# Altium schematic symbol library jlcpcb_2025_04_ferrites_extended_0402.schlib: 536 symbols (part 7 of 10)
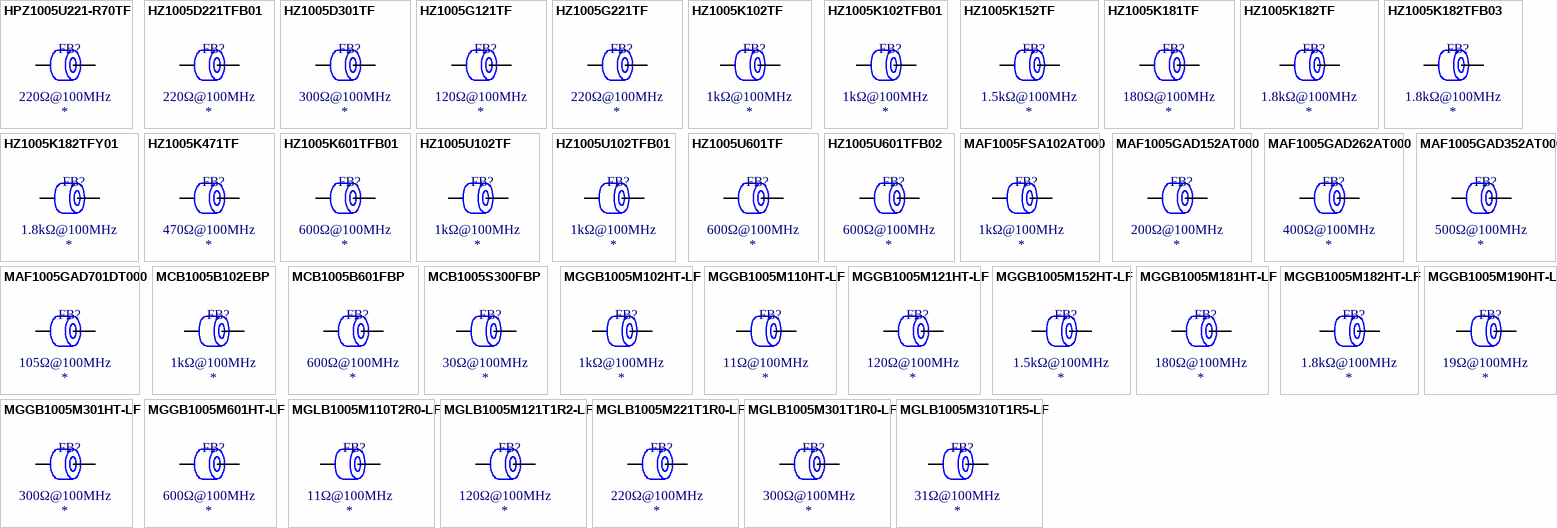
[diagram p19: symbols HPZ1005U221-R70TF to MGLB1005M310T1R5-LF]

## HZ1005U102TF
designator FB?  Impedance @ Frequency: 1kΩ@100MHz
Ferrite, 1kΩ@100MHz, ±25%, 1.1Ω, 250mA, SMD 0402; Manufacturer: Sunlord; Manufacturer Part Number: HZ1005U102TF; Package Size: 0402; JLCPCB Basic Part: No; JLCPCB Part Number: C279808; Supplier 1: LCSC; Category: Ferrite Beads; Supplier Part Number 1: C279808; Tolerance: ±25%; Rated Current: 250mA; DC Resistance: 1.1Ω; RoHS: Yes; ComponentLink1Description: Datasheet; ComponentLink1URL: https://wmsc.lcsc.com/wmsc/upload/file/pdf/v2/lcsc/2310301640_Sunlord-HZ1005U102TF_C279808.pdf; ComponentLink2Description: JLCPCB Part URL; ComponentLink2URL: https://jlcpcb.com/partdetail/C279808; ComponentLink3Description: LCSC Part URL; ComponentLink3URL: https://lcsc.com/product-detail/Ferrite-Beads_Sunlord-Sunlord-HZ1005U102TF_C279808.html
footprint FB-0402 (0402 (1005M) Ferrite)
pins: 1, 2

## HZ1005U102TFB01
designator FB?  Impedance @ Frequency: 1kΩ@100MHz
Ferrite, 1kΩ@100MHz, ±25%, 1.1Ω, 250mA, SMD 0402; Manufacturer: Sunlord; Manufacturer Part Number: HZ1005U102TFB01; Package Size: 0402; JLCPCB Basic Part: No; JLCPCB Part Number: C279551; Supplier 1: LCSC; Category: Ferrite Beads; Supplier Part Number 1: C279551; Tolerance: ±25%; Rated Current: 250mA; DC Resistance: 1.1Ω; RoHS: Yes; ComponentLink1Description: Datasheet; ComponentLink1URL: https://wmsc.lcsc.com/wmsc/upload/file/pdf/v2/lcsc/2310301640_Sunlord-HZ1005U102TFB01_C279551.pdf; ComponentLink2Description: JLCPCB Part URL; ComponentLink2URL: https://jlcpcb.com/partdetail/C279551; ComponentLink3Description: LCSC Part URL; ComponentLink3URL: https://lcsc.com/product-detail/Ferrite-Beads_Sunlord-Sunlord-HZ1005U102TFB01_C279551.html
footprint FB-0402 (0402 (1005M) Ferrite)
pins: 1, 2

## HZ1005U601TF
designator FB?  Impedance @ Frequency: 600Ω@100MHz
Ferrite, 600Ω@100MHz, ±25%, 700mΩ, 300mA, SMD 0402; Manufacturer: Sunlord; Manufacturer Part Number: HZ1005U601TF; Package Size: 0402; JLCPCB Basic Part: No; JLCPCB Part Number: C279739; Supplier 1: LCSC; Category: Ferrite Beads; Supplier Part Number 1: C279739; Tolerance: ±25%; Rated Current: 300mA; DC Resistance: 700mΩ; RoHS: Yes; ComponentLink1Description: Datasheet; ComponentLink1URL: https://wmsc.lcsc.com/wmsc/upload/file/pdf/v2/lcsc/2310301640_Sunlord-HZ1005U601TF_C279739.pdf; ComponentLink2Description: JLCPCB Part URL; ComponentLink2URL: https://jlcpcb.com/partdetail/C279739; ComponentLink3Description: LCSC Part URL; ComponentLink3URL: https://lcsc.com/product-detail/Ferrite-Beads_Sunlord-Sunlord-HZ1005U601TF_C279739.html
footprint FB-0402 (0402 (1005M) Ferrite)
pins: 1, 2

## HZ1005U601TFB02
designator FB?  Impedance @ Frequency: 600Ω@100MHz
Ferrite, 600Ω@100MHz, ±25%, 700mΩ, 300mA, SMD 0402; Manufacturer: Sunlord; Manufacturer Part Number: HZ1005U601TFB02; Package Size: 0402; JLCPCB Basic Part: No; JLCPCB Part Number: C370006; Supplier 1: LCSC; Category: Ferrite Beads; Supplier Part Number 1: C370006; Tolerance: ±25%; Rated Current: 300mA; DC Resistance: 700mΩ; RoHS: Yes; ComponentLink1Description: Datasheet; ComponentLink1URL: https://wmsc.lcsc.com/wmsc/upload/file/pdf/v2/lcsc/2310301640_Sunlord-HZ1005U601TFB02_C370006.pdf; ComponentLink2Description: JLCPCB Part URL; ComponentLink2URL: https://jlcpcb.com/partdetail/C370006; ComponentLink3Description: LCSC Part URL; ComponentLink3URL: https://lcsc.com/product-detail/Ferrite-Beads_Sunlord-Sunlord-HZ1005U601TFB02_C370006.html
footprint FB-0402 (0402 (1005M) Ferrite)
pins: 1, 2

## MAF1005FSA102AT000
designator FB?  Impedance @ Frequency: 1kΩ@100MHz
Ferrite, 1kΩ@100MHz, ±25%, 900mΩ, 230mA, SMD 0402; Manufacturer: TDK; Manufacturer Part Number: MAF1005FSA102AT000; Package Size: 0402; JLCPCB Basic Part: No; JLCPCB Part Number: C432983; Supplier 1: LCSC; Category: Ferrite Beads; Supplier Part Number 1: C432983; Tolerance: ±25%; Rated Current: 230mA; DC Resistance: 900mΩ; RoHS: Yes; ComponentLink1Description: Datasheet; ComponentLink1URL: https://wmsc.lcsc.com/wmsc/upload/file/pdf/v2/lcsc/1912111437_TDK-MAF1005FSA102AT000_C432983.pdf; ComponentLink2Description: JLCPCB Part URL; ComponentLink2URL: https://jlcpcb.com/partdetail/C432983; ComponentLink3Description: LCSC Part URL; ComponentLink3URL: https://lcsc.com/product-detail/Ferrite-Beads_TDK-TDK-MAF1005FSA102AT000_C432983.html
footprint FB-0402 (0402 (1005M) Ferrite)
pins: 1, 2

## MAF1005GAD152AT000
designator FB?  Impedance @ Frequency: 200Ω@100MHz
Ferrite, 200Ω@100MHz, ±25%, 700mΩ, 400mA, SMD 0402; Manufacturer: TDK; Manufacturer Part Number: MAF1005GAD152AT000; Package Size: 0402; JLCPCB Basic Part: No; JLCPCB Part Number: C413911; Supplier 1: LCSC; Category: Ferrite Beads; Supplier Part Number 1: C413911; Tolerance: ±25%; Rated Current: 400mA; DC Resistance: 700mΩ; RoHS: Yes; ComponentLink1Description: Datasheet; ComponentLink1URL: https://wmsc.lcsc.com/wmsc/upload/file/pdf/v2/lcsc/2304140030_TDK-MAF1005GAD152AT000_C413911.pdf; ComponentLink2Description: JLCPCB Part URL; ComponentLink2URL: https://jlcpcb.com/partdetail/C413911; ComponentLink3Description: LCSC Part URL; ComponentLink3URL: https://lcsc.com/product-detail/Ferrite-Beads_TDK-TDK-MAF1005GAD152AT000_C413911.html
footprint FB-0402 (0402 (1005M) Ferrite)
pins: 1, 2

## MAF1005GAD262AT000
designator FB?  Impedance @ Frequency: 400Ω@100MHz
Ferrite, 400Ω@100MHz, ±25%, 1.2Ω, 300mA, SMD 0402; Manufacturer: TDK; Manufacturer Part Number: MAF1005GAD262AT000; Package Size: 0402; JLCPCB Basic Part: No; JLCPCB Part Number: C2680657; Supplier 1: LCSC; Category: Ferrite Beads; Supplier Part Number 1: C2680657; Tolerance: ±25%; Rated Current: 300mA; DC Resistance: 1.2Ω; RoHS: Yes; ComponentLink1Description: Datasheet; ComponentLink1URL: https://wmsc.lcsc.com/wmsc/upload/file/pdf/v2/lcsc/2101051104_TDK-MAF1005GAD262AT000_C2680657.pdf; ComponentLink2Description: JLCPCB Part URL; ComponentLink2URL: https://jlcpcb.com/partdetail/C2680657; ComponentLink3Description: LCSC Part URL; ComponentLink3URL: https://lcsc.com/product-detail/Ferrite-Beads_TDK-TDK-MAF1005GAD262AT000_C2680657.html
footprint FB-0402 (0402 (1005M) Ferrite)
pins: 1, 2

## MAF1005GAD352AT000
designator FB?  Impedance @ Frequency: 500Ω@100MHz
Ferrite, 500Ω@100MHz, 1.65Ω, SMD 0402; Manufacturer: TDK; Manufacturer Part Number: MAF1005GAD352AT000; Package Size: 0402; JLCPCB Basic Part: No; JLCPCB Part Number: C2662026; Supplier 1: LCSC; Category: Ferrite Beads; Supplier Part Number 1: C2662026; DC Resistance: 1.65Ω; RoHS: Yes; ComponentLink1Description: Datasheet; ComponentLink1URL: https://wmsc.lcsc.com/wmsc/upload/file/pdf/v2/lcsc/2401161205_TDK-MAF1005GAD352AT000_C2662026.pdf; ComponentLink2Description: JLCPCB Part URL; ComponentLink2URL: https://jlcpcb.com/partdetail/C2662026; ComponentLink3Description: LCSC Part URL; ComponentLink3URL: https://lcsc.com/product-detail/Ferrite-Beads_TDK-TDK-MAF1005GAD352AT000_C2662026.html
pins: 1, 2

## MAF1005GAD701DT000
designator FB?  Impedance @ Frequency: 105Ω@100MHz
Ferrite, 105Ω@100MHz, ±25%, 351mΩ, 800mA, SMD 0402; Manufacturer: TDK; Manufacturer Part Number: MAF1005GAD701DT000; Package Size: 0402; JLCPCB Basic Part: No; JLCPCB Part Number: C531393; Supplier 1: LCSC; Category: Ferrite Beads; Supplier Part Number 1: C531393; Tolerance: ±25%; Rated Current: 800mA; DC Resistance: 351mΩ; RoHS: Yes; ComponentLink1Description: Datasheet; ComponentLink1URL: https://wmsc.lcsc.com/wmsc/upload/file/pdf/v2/lcsc/2304140030_TDK-MAF1005GAD701DT000_C531393.pdf; ComponentLink2Description: JLCPCB Part URL; ComponentLink2URL: https://jlcpcb.com/partdetail/C531393; ComponentLink3Description: LCSC Part URL; ComponentLink3URL: https://lcsc.com/product-detail/Ferrite-Beads_TDK-TDK-MAF1005GAD701DT000_C531393.html
footprint FB-0402 (0402 (1005M) Ferrite)
pins: 1, 2

## MCB1005B102EBP
designator FB?  Impedance @ Frequency: 1kΩ@100MHz
Ferrite, 1kΩ@100MHz, ±25%, 1Ω, 200mA, SMD 0402; Manufacturer: INPAQ; Manufacturer Part Number: MCB1005B102EBP; Package Size: 0402; JLCPCB Basic Part: No; JLCPCB Part Number: C693036; Supplier 1: LCSC; Category: Ferrite Beads; Supplier Part Number 1: C693036; Tolerance: ±25%; Rated Current: 200mA; DC Resistance: 1Ω; RoHS: Yes; ComponentLink1Description: Datasheet; ComponentLink1URL: https://wmsc.lcsc.com/wmsc/upload/file/pdf/v2/lcsc/2304140030_INPAQ-MCB1005B102EBP_C693036.pdf; ComponentLink2Description: JLCPCB Part URL; ComponentLink2URL: https://jlcpcb.com/partdetail/C693036; ComponentLink3Description: LCSC Part URL; ComponentLink3URL: https://lcsc.com/product-detail/Ferrite-Beads_INPAQ-INPAQ-MCB1005B102EBP_C693036.html
footprint FB-0402 (0402 (1005M) Ferrite)
pins: 1, 2

## MCB1005B601FBP
designator FB?  Impedance @ Frequency: 600Ω@100MHz
Ferrite, 600Ω@100MHz, ±25%, 600mΩ, 300mA, SMD 0402; Manufacturer: INPAQ; Manufacturer Part Number: MCB1005B601FBP; Package Size: 0402; JLCPCB Basic Part: No; JLCPCB Part Number: C964131; Supplier 1: LCSC; Category: Ferrite Beads; Supplier Part Number 1: C964131; Tolerance: ±25%; Rated Current: 300mA; DC Resistance: 600mΩ; RoHS: Yes; ComponentLink1Description: Datasheet; ComponentLink1URL: https://wmsc.lcsc.com/wmsc/upload/file/pdf/v2/lcsc/2304140030_INPAQ-MCB1005B601FBP_C964131.pdf; ComponentLink2Description: JLCPCB Part URL; ComponentLink2URL: https://jlcpcb.com/partdetail/C964131; ComponentLink3Description: LCSC Part URL; ComponentLink3URL: https://lcsc.com/product-detail/Ferrite-Beads_INPAQ-INPAQ-MCB1005B601FBP_C964131.html
footprint FB-0402 (0402 (1005M) Ferrite)
pins: 1, 2

## MCB1005S300FBP
designator FB?  Impedance @ Frequency: 30Ω@100MHz
Ferrite, 30Ω@100MHz, ±25%, 250mΩ, 300mA, SMD 0402; Manufacturer: INPAQ; Manufacturer Part Number: MCB1005S300FBP; Package Size: 0402; JLCPCB Basic Part: No; JLCPCB Part Number: C964127; Supplier 1: LCSC; Category: Ferrite Beads; Supplier Part Number 1: C964127; Tolerance: ±25%; Rated Current: 300mA; DC Resistance: 250mΩ; RoHS: Yes; ComponentLink1Description: Datasheet; ComponentLink1URL: https://wmsc.lcsc.com/wmsc/upload/file/pdf/v2/lcsc/2012231310_INPAQ-MCB1005S300FBP_C964127.pdf; ComponentLink2Description: JLCPCB Part URL; ComponentLink2URL: https://jlcpcb.com/partdetail/C964127; ComponentLink3Description: LCSC Part URL; ComponentLink3URL: https://lcsc.com/product-detail/Ferrite-Beads_INPAQ-INPAQ-MCB1005S300FBP_C964127.html
footprint FB-0402 (0402 (1005M) Ferrite)
pins: 1, 2

## MGGB1005M102HT-LF
designator FB?  Impedance @ Frequency: 1kΩ@100MHz
Ferrite, 1kΩ@100MHz, ±25%, 1.3Ω, 100mA, SMD 0402; Manufacturer: microgate; Manufacturer Part Number: MGGB1005M102HT-LF; Package Size: 0402; JLCPCB Basic Part: No; JLCPCB Part Number: C281126; Supplier 1: LCSC; Category: Ferrite Beads; Supplier Part Number 1: C281126; Tolerance: ±25%; Rated Current: 100mA; DC Resistance: 1.3Ω; RoHS: Yes; ComponentLink1Description: Datasheet; ComponentLink1URL: https://wmsc.lcsc.com/wmsc/upload/file/pdf/v2/lcsc/2304140030_microgate-MGGB1005M102HT-LF_C281126.pdf; ComponentLink2Description: JLCPCB Part URL; ComponentLink2URL: https://jlcpcb.com/partdetail/C281126; ComponentLink3Description: LCSC Part URL; ComponentLink3URL: https://lcsc.com/product-detail/Ferrite-Beads_microgate-microgate-MGGB1005M102HT-LF_C281126.html
footprint FB-0402 (0402 (1005M) Ferrite)
pins: 1, 2

## MGGB1005M110HT-LF
designator FB?  Impedance @ Frequency: 11Ω@100MHz
Ferrite, 11Ω@100MHz, ±25%, 0.05Ω, 500mA, SMD 0402; Manufacturer: microgate; Manufacturer Part Number: MGGB1005M110HT-LF; Package Size: 0402; JLCPCB Basic Part: No; JLCPCB Part Number: C281127; Supplier 1: LCSC; Category: Ferrite Beads; Supplier Part Number 1: C281127; Tolerance: ±25%; Rated Current: 500mA; DC Resistance: 0.05Ω; RoHS: Yes; ComponentLink1Description: Datasheet; ComponentLink1URL: https://wmsc.lcsc.com/wmsc/upload/file/pdf/v2/lcsc/2304140030_microgate-MGGB1005M110HT-LF_C281127.pdf; ComponentLink2Description: JLCPCB Part URL; ComponentLink2URL: https://jlcpcb.com/partdetail/C281127; ComponentLink3Description: LCSC Part URL; ComponentLink3URL: https://lcsc.com/product-detail/Ferrite-Beads_microgate-microgate-MGGB1005M110HT-LF_C281127.html
footprint FB-0402 (0402 (1005M) Ferrite)
pins: 1, 2

## MGGB1005M121HT-LF
designator FB?  Impedance @ Frequency: 120Ω@100MHz
Ferrite, 120Ω@100MHz, ±25%, 0.4Ω, 150mA, SMD 0402; Manufacturer: microgate; Manufacturer Part Number: MGGB1005M121HT-LF; Package Size: 0402; JLCPCB Basic Part: No; JLCPCB Part Number: C281128; Supplier 1: LCSC; Category: Ferrite Beads; Supplier Part Number 1: C281128; Tolerance: ±25%; Rated Current: 150mA; DC Resistance: 0.4Ω; RoHS: Yes; ComponentLink1Description: Datasheet; ComponentLink1URL: https://wmsc.lcsc.com/wmsc/upload/file/pdf/v2/lcsc/2304140030_microgate-MGGB1005M121HT-LF_C281128.pdf; ComponentLink2Description: JLCPCB Part URL; ComponentLink2URL: https://jlcpcb.com/partdetail/C281128; ComponentLink3Description: LCSC Part URL; ComponentLink3URL: https://lcsc.com/product-detail/Ferrite-Beads_microgate-microgate-MGGB1005M121HT-LF_C281128.html
footprint FB-0402 (0402 (1005M) Ferrite)
pins: 1, 2

## MGGB1005M152HT-LF
designator FB?  Impedance @ Frequency: 1.5kΩ@100MHz
Ferrite, 1.5kΩ@100MHz, ±25%, 1.4Ω, 100mA, SMD 0402; Manufacturer: microgate; Manufacturer Part Number: MGGB1005M152HT-LF; Package Size: 0402; JLCPCB Basic Part: No; JLCPCB Part Number: C281129; Supplier 1: LCSC; Category: Ferrite Beads; Supplier Part Number 1: C281129; Tolerance: ±25%; Rated Current: 100mA; DC Resistance: 1.4Ω; RoHS: Yes; ComponentLink1Description: Datasheet; ComponentLink1URL: https://wmsc.lcsc.com/wmsc/upload/file/pdf/v2/lcsc/2304140030_microgate-MGGB1005M152HT-LF_C281129.pdf; ComponentLink2Description: JLCPCB Part URL; ComponentLink2URL: https://jlcpcb.com/partdetail/C281129; ComponentLink3Description: LCSC Part URL; ComponentLink3URL: https://lcsc.com/product-detail/Ferrite-Beads_microgate-microgate-MGGB1005M152HT-LF_C281129.html
footprint FB-0402 (0402 (1005M) Ferrite)
pins: 1, 2

## MGGB1005M181HT-LF
designator FB?  Impedance @ Frequency: 180Ω@100MHz
Ferrite, 180Ω@100MHz, ±25%, 0.5Ω, 150mA, SMD 0402; Manufacturer: microgate; Manufacturer Part Number: MGGB1005M181HT-LF; Package Size: 0402; JLCPCB Basic Part: No; JLCPCB Part Number: C281130; Supplier 1: LCSC; Category: Ferrite Beads; Supplier Part Number 1: C281130; Tolerance: ±25%; Rated Current: 150mA; DC Resistance: 0.5Ω; RoHS: Yes; ComponentLink1Description: Datasheet; ComponentLink1URL: https://wmsc.lcsc.com/wmsc/upload/file/pdf/v2/lcsc/2304140030_microgate-MGGB1005M181HT-LF_C281130.pdf; ComponentLink2Description: JLCPCB Part URL; ComponentLink2URL: https://jlcpcb.com/partdetail/C281130; ComponentLink3Description: LCSC Part URL; ComponentLink3URL: https://lcsc.com/product-detail/Ferrite-Beads_microgate-microgate-MGGB1005M181HT-LF_C281130.html
footprint FB-0402 (0402 (1005M) Ferrite)
pins: 1, 2

## MGGB1005M182HT-LF
designator FB?  Impedance @ Frequency: 1.8kΩ@100MHz
Ferrite, 1.8kΩ@100MHz, ±25%, 1.4Ω, 100mA, SMD 0402; Manufacturer: microgate; Manufacturer Part Number: MGGB1005M182HT-LF; Package Size: 0402; JLCPCB Basic Part: No; JLCPCB Part Number: C281131; Supplier 1: LCSC; Category: Ferrite Beads; Supplier Part Number 1: C281131; Tolerance: ±25%; Rated Current: 100mA; DC Resistance: 1.4Ω; RoHS: Yes; ComponentLink1Description: Datasheet; ComponentLink1URL: https://wmsc.lcsc.com/wmsc/upload/file/pdf/v2/lcsc/2304140030_microgate-MGGB1005M182HT-LF_C281131.pdf; ComponentLink2Description: JLCPCB Part URL; ComponentLink2URL: https://jlcpcb.com/partdetail/C281131; ComponentLink3Description: LCSC Part URL; ComponentLink3URL: https://lcsc.com/product-detail/Ferrite-Beads_microgate-microgate-MGGB1005M182HT-LF_C281131.html
footprint FB-0402 (0402 (1005M) Ferrite)
pins: 1, 2

## MGGB1005M190HT-LF
designator FB?  Impedance @ Frequency: 19Ω@100MHz
Ferrite, 19Ω@100MHz, ±25%, 0.05Ω, 300mA, SMD 0402; Manufacturer: microgate; Manufacturer Part Number: MGGB1005M190HT-LF; Package Size: 0402; JLCPCB Basic Part: No; JLCPCB Part Number: C281132; Supplier 1: LCSC; Category: Ferrite Beads; Supplier Part Number 1: C281132; Tolerance: ±25%; Rated Current: 300mA; DC Resistance: 0.05Ω; RoHS: Yes; ComponentLink1Description: Datasheet; ComponentLink1URL: https://wmsc.lcsc.com/wmsc/upload/file/pdf/v2/lcsc/2304140030_microgate-MGGB1005M190HT-LF_C281132.pdf; ComponentLink2Description: JLCPCB Part URL; ComponentLink2URL: https://jlcpcb.com/partdetail/C281132; ComponentLink3Description: LCSC Part URL; ComponentLink3URL: https://lcsc.com/product-detail/Ferrite-Beads_microgate-microgate-MGGB1005M190HT-LF_C281132.html
footprint FB-0402 (0402 (1005M) Ferrite)
pins: 1, 2

## MGGB1005M301HT-LF
designator FB?  Impedance @ Frequency: 300Ω@100MHz
Ferrite, 300Ω@100MHz, ±25%, 0.65Ω, 100mA, SMD 0402; Manufacturer: microgate; Manufacturer Part Number: MGGB1005M301HT-LF; Package Size: 0402; JLCPCB Basic Part: No; JLCPCB Part Number: C281133; Supplier 1: LCSC; Category: Ferrite Beads; Supplier Part Number 1: C281133; Tolerance: ±25%; Rated Current: 100mA; DC Resistance: 0.65Ω; RoHS: Yes; ComponentLink1Description: Datasheet; ComponentLink1URL: https://wmsc.lcsc.com/wmsc/upload/file/pdf/v2/lcsc/2304140030_microgate-MGGB1005M301HT-LF_C281133.pdf; ComponentLink2Description: JLCPCB Part URL; ComponentLink2URL: https://jlcpcb.com/partdetail/C281133; ComponentLink3Description: LCSC Part URL; ComponentLink3URL: https://lcsc.com/product-detail/Ferrite-Beads_microgate-microgate-MGGB1005M301HT-LF_C281133.html
footprint FB-0402 (0402 (1005M) Ferrite)
pins: 1, 2

## MGGB1005M601HT-LF
designator FB?  Impedance @ Frequency: 600Ω@100MHz
Ferrite, 600Ω@100MHz, ±25%, 1Ω, 100mA, SMD 0402; Manufacturer: microgate; Manufacturer Part Number: MGGB1005M601HT-LF; Package Size: 0402; JLCPCB Basic Part: No; JLCPCB Part Number: C281136; Supplier 1: LCSC; Category: Ferrite Beads; Supplier Part Number 1: C281136; Tolerance: ±25%; Rated Current: 100mA; DC Resistance: 1Ω; RoHS: Yes; ComponentLink1Description: Datasheet; ComponentLink1URL: https://wmsc.lcsc.com/wmsc/upload/file/pdf/v2/lcsc/2304140030_microgate-MGGB1005M601HT-LF_C281136.pdf; ComponentLink2Description: JLCPCB Part URL; ComponentLink2URL: https://jlcpcb.com/partdetail/C281136; ComponentLink3Description: LCSC Part URL; ComponentLink3URL: https://lcsc.com/product-detail/Ferrite-Beads_microgate-microgate-MGGB1005M601HT-LF_C281136.html
footprint FB-0402 (0402 (1005M) Ferrite)
pins: 1, 2

## MGLB1005M110T2R0-LF
designator FB?  Impedance @ Frequency: 11Ω@100MHz
Ferrite, 11Ω@100MHz, ±25%, 50mΩ, 2A, SMD 0402; Manufacturer: microgate; Manufacturer Part Number: MGLB1005M110T2R0-LF; Package Size: 0402; JLCPCB Basic Part: No; JLCPCB Part Number: C281194; Supplier 1: LCSC; Category: Ferrite Beads; Supplier Part Number 1: C281194; Tolerance: ±25%; Rated Current: 2A; DC Resistance: 50mΩ; RoHS: Yes; ComponentLink1Description: Datasheet; ComponentLink1URL: https://wmsc.lcsc.com/wmsc/upload/file/pdf/v2/lcsc/2304140030_microgate-MGLB1005M110T2R0-LF_C281194.pdf; ComponentLink2Description: JLCPCB Part URL; ComponentLink2URL: https://jlcpcb.com/partdetail/C281194; ComponentLink3Description: LCSC Part URL; ComponentLink3URL: https://lcsc.com/product-detail/Ferrite-Beads_microgate-microgate-MGLB1005M110T2R0-LF_C281194.html
footprint FB-0402 (0402 (1005M) Ferrite)
pins: 1, 2

## MGLB1005M121T1R2-LF
designator FB?  Impedance @ Frequency: 120Ω@100MHz
Ferrite, 120Ω@100MHz, ±25%, 100mΩ, 1.2A, SMD 0402; Manufacturer: microgate; Manufacturer Part Number: MGLB1005M121T1R2-LF; Package Size: 0402; JLCPCB Basic Part: No; JLCPCB Part Number: C281195; Supplier 1: LCSC; Category: Ferrite Beads; Supplier Part Number 1: C281195; Tolerance: ±25%; Rated Current: 1.2A; DC Resistance: 100mΩ; RoHS: Yes; ComponentLink1Description: Datasheet; ComponentLink1URL: https://wmsc.lcsc.com/wmsc/upload/file/pdf/v2/lcsc/2304140030_microgate-MGLB1005M121T1R2-LF_C281195.pdf; ComponentLink2Description: JLCPCB Part URL; ComponentLink2URL: https://jlcpcb.com/partdetail/C281195; ComponentLink3Description: LCSC Part URL; ComponentLink3URL: https://lcsc.com/product-detail/Ferrite-Beads_microgate-microgate-MGLB1005M121T1R2-LF_C281195.html
footprint FB-0402 (0402 (1005M) Ferrite)
pins: 1, 2

## MGLB1005M221T1R0-LF
designator FB?  Impedance @ Frequency: 220Ω@100MHz
Ferrite, 220Ω@100MHz, ±25%, 150mΩ, 1A, SMD 0402; Manufacturer: microgate; Manufacturer Part Number: MGLB1005M221T1R0-LF; Package Size: 0402; JLCPCB Basic Part: No; JLCPCB Part Number: C281196; Supplier 1: LCSC; Category: Ferrite Beads; Supplier Part Number 1: C281196; Tolerance: ±25%; Rated Current: 1A; DC Resistance: 150mΩ; RoHS: Yes; ComponentLink1Description: Datasheet; ComponentLink1URL: https://wmsc.lcsc.com/wmsc/upload/file/pdf/v2/lcsc/2304140030_microgate-MGLB1005M221T1R0-LF_C281196.pdf; ComponentLink2Description: JLCPCB Part URL; ComponentLink2URL: https://jlcpcb.com/partdetail/C281196; ComponentLink3Description: LCSC Part URL; ComponentLink3URL: https://lcsc.com/product-detail/Ferrite-Beads_microgate-microgate-MGLB1005M221T1R0-LF_C281196.html
footprint FB-0402 (0402 (1005M) Ferrite)
pins: 1, 2

## MGLB1005M301T1R0-LF
designator FB?  Impedance @ Frequency: 300Ω@100MHz
Ferrite, 300Ω@100MHz, ±25%, 200mΩ, 1A, SMD 0402; Manufacturer: microgate; Manufacturer Part Number: MGLB1005M301T1R0-LF; Package Size: 0402; JLCPCB Basic Part: No; JLCPCB Part Number: C281197; Supplier 1: LCSC; Category: Ferrite Beads; Supplier Part Number 1: C281197; Tolerance: ±25%; Rated Current: 1A; DC Resistance: 200mΩ; RoHS: Yes; ComponentLink1Description: Datasheet; ComponentLink1URL: https://wmsc.lcsc.com/wmsc/upload/file/pdf/v2/lcsc/2304140030_microgate-MGLB1005M301T1R0-LF_C281197.pdf; ComponentLink2Description: JLCPCB Part URL; ComponentLink2URL: https://jlcpcb.com/partdetail/C281197; ComponentLink3Description: LCSC Part URL; ComponentLink3URL: https://lcsc.com/product-detail/Ferrite-Beads_microgate-microgate-MGLB1005M301T1R0-LF_C281197.html
footprint FB-0402 (0402 (1005M) Ferrite)
pins: 1, 2

## MGLB1005M310T1R5-LF
designator FB?  Impedance @ Frequency: 31Ω@100MHz
Ferrite, 31Ω@100MHz, ±25%, 60mΩ, 1.5A, SMD 0402; Manufacturer: microgate; Manufacturer Part Number: MGLB1005M310T1R5-LF; Package Size: 0402; JLCPCB Basic Part: No; JLCPCB Part Number: C281198; Supplier 1: LCSC; Category: Ferrite Beads; Supplier Part Number 1: C281198; Tolerance: ±25%; Rated Current: 1.5A; DC Resistance: 60mΩ; RoHS: Yes; ComponentLink1Description: Datasheet; ComponentLink1URL: https://wmsc.lcsc.com/wmsc/upload/file/pdf/v2/lcsc/2304140030_microgate-MGLB1005M310T1R5-LF_C281198.pdf; ComponentLink2Description: JLCPCB Part URL; ComponentLink2URL: https://jlcpcb.com/partdetail/C281198; ComponentLink3Description: LCSC Part URL; ComponentLink3URL: https://lcsc.com/product-detail/Ferrite-Beads_microgate-microgate-MGLB1005M310T1R5-LF_C281198.html
footprint FB-0402 (0402 (1005M) Ferrite)
pins: 1, 2

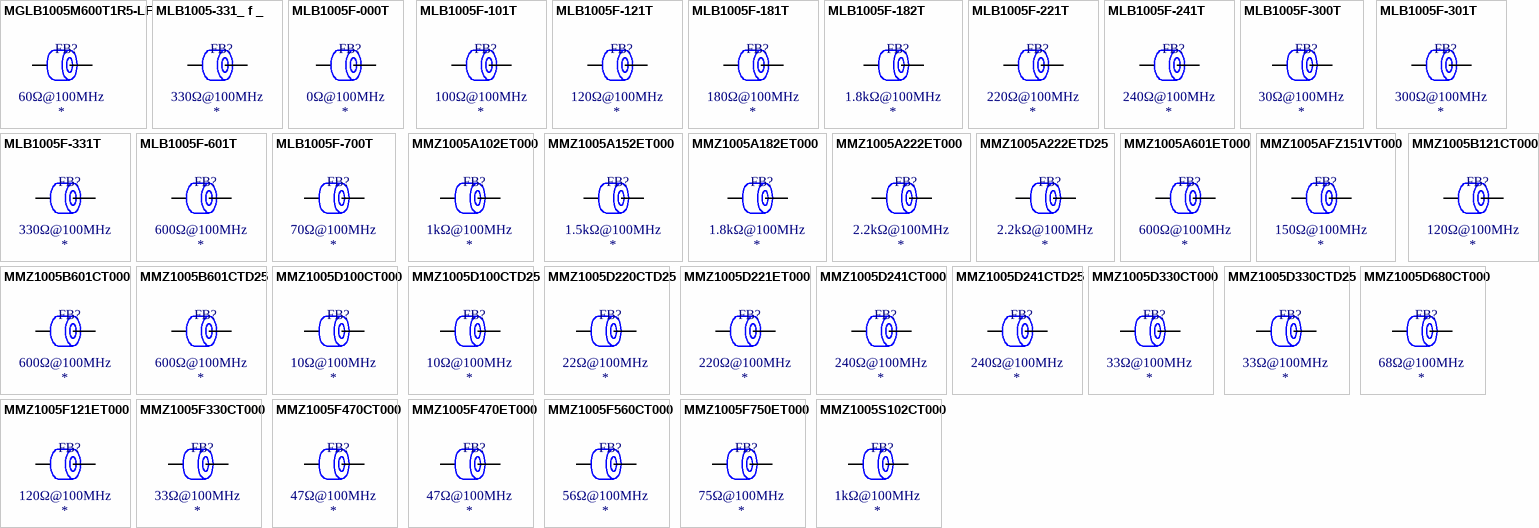
[diagram p9: symbols MGLB1005M600T1R5-LF to MMZ1005S102CT000]

## MGLB1005M600T1R5-LF
designator FB?  Impedance @ Frequency: 60Ω@100MHz
Ferrite, 60Ω@100MHz, ±25%, 80mΩ, 1.5A, SMD 0402; Manufacturer: microgate; Manufacturer Part Number: MGLB1005M600T1R5-LF; Package Size: 0402; JLCPCB Basic Part: No; JLCPCB Part Number: C281199; Supplier 1: LCSC; Category: Ferrite Beads; Supplier Part Number 1: C281199; Tolerance: ±25%; Rated Current: 1.5A; DC Resistance: 80mΩ; RoHS: Yes; ComponentLink1Description: Datasheet; ComponentLink1URL: https://wmsc.lcsc.com/wmsc/upload/file/pdf/v2/lcsc/2304140030_microgate-MGLB1005M600T1R5-LF_C281199.pdf; ComponentLink2Description: JLCPCB Part URL; ComponentLink2URL: https://jlcpcb.com/partdetail/C281199; ComponentLink3Description: LCSC Part URL; ComponentLink3URL: https://lcsc.com/product-detail/Ferrite-Beads_microgate-microgate-MGLB1005M600T1R5-LF_C281199.html
footprint FB-0402 (0402 (1005M) Ferrite)
pins: 1, 2

## MLB1005-331_ f _
designator FB?  Impedance @ Frequency: 330Ω@100MHz
Ferrite, 330Ω@100MHz, ±25%, 500mΩ, 100mA, SMD 0402; Manufacturer: Meled; Manufacturer Part Number: MLB1005-331( f ); Package Size: 0402; JLCPCB Basic Part: No; JLCPCB Part Number: C35047; Supplier 1: LCSC; Category: Ferrite Beads; Supplier Part Number 1: C35047; Tolerance: ±25%; Rated Current: 100mA; DC Resistance: 500mΩ; RoHS: Yes; ComponentLink1Description: Datasheet; ComponentLink1URL: https://wmsc.lcsc.com/wmsc/upload/file/pdf/v2/lcsc/1809140117_MetalLions-MLB1005-331--f-_C35047.pdf; ComponentLink2Description: JLCPCB Part URL; ComponentLink2URL: https://jlcpcb.com/partdetail/C35047; ComponentLink3Description: LCSC Part URL; ComponentLink3URL: https://lcsc.com/product-detail/Ferrite-Beads_Meled-Meled-MLB1005-331-f-_C35047.html
footprint FB-0402 (0402 (1005M) Ferrite)
pins: 1, 2

## MLB1005F-000T
designator FB?  Impedance @ Frequency: 0Ω@100MHz
Ferrite, 0Ω@100MHz, ±25%, SMD 0402; Manufacturer: Meled; Manufacturer Part Number: MLB1005F-000T; Package Size: 0402; JLCPCB Basic Part: No; JLCPCB Part Number: C2844526; Supplier 1: LCSC; Category: Ferrite Beads; Supplier Part Number 1: C2844526; Tolerance: ±25%; RoHS: Yes; ComponentLink1Description: Datasheet; ComponentLink1URL: https://wmsc.lcsc.com/wmsc/upload/file/pdf/v2/lcsc/2306021141_MetalLions-MLB1005F-000T_C2844526.pdf; ComponentLink2Description: JLCPCB Part URL; ComponentLink2URL: https://jlcpcb.com/partdetail/C2844526; ComponentLink3Description: LCSC Part URL; ComponentLink3URL: https://lcsc.com/product-detail/Ferrite-Beads_MetalLions-MetalLions-MLB1005F-000T_C2844526.html
pins: 1, 2

## MLB1005F-101T
designator FB?  Impedance @ Frequency: 100Ω@100MHz
Ferrite, 100Ω@100MHz, ±25%, SMD 0402; Manufacturer: Meled; Manufacturer Part Number: MLB1005F-101T; Package Size: 0402; JLCPCB Basic Part: No; JLCPCB Part Number: C2844534; Supplier 1: LCSC; Category: Ferrite Beads; Supplier Part Number 1: C2844534; Tolerance: ±25%; RoHS: Yes; ComponentLink1Description: Datasheet; ComponentLink1URL: https://wmsc.lcsc.com/wmsc/upload/file/pdf/v2/lcsc/2306021142_MetalLions-MLB1005F-101T_C2844534.pdf; ComponentLink2Description: JLCPCB Part URL; ComponentLink2URL: https://jlcpcb.com/partdetail/C2844534; ComponentLink3Description: LCSC Part URL; ComponentLink3URL: https://lcsc.com/product-detail/Ferrite-Beads_Meled-Meled-MLB1005F-101T_C2844534.html
pins: 1, 2

## MLB1005F-121T
designator FB?  Impedance @ Frequency: 120Ω@100MHz
Ferrite, 120Ω@100MHz, ±25%, 400mΩ, 200mA, SMD 0402; Manufacturer: Meled; Manufacturer Part Number: MLB1005F-121T; Package Size: 0402; JLCPCB Basic Part: No; JLCPCB Part Number: C2844535; Supplier 1: LCSC; Category: Ferrite Beads; Supplier Part Number 1: C2844535; Tolerance: ±25%; Rated Current: 200mA; DC Resistance: 400mΩ; RoHS: Yes; ComponentLink1Description: Datasheet; ComponentLink1URL: https://wmsc.lcsc.com/wmsc/upload/file/pdf/v2/lcsc/2306021142_MetalLions-MLB1005F-121T_C2844535.pdf; ComponentLink2Description: JLCPCB Part URL; ComponentLink2URL: https://jlcpcb.com/partdetail/C2844535; ComponentLink3Description: LCSC Part URL; ComponentLink3URL: https://lcsc.com/product-detail/Ferrite-Beads_MetalLions-MetalLions-MLB1005F-121T_C2844535.html
footprint FB-0402 (0402 (1005M) Ferrite)
pins: 1, 2

## MLB1005F-181T
designator FB?  Impedance @ Frequency: 180Ω@100MHz
Ferrite, 180Ω@100MHz, ±25%, SMD 0402; Manufacturer: Meled; Manufacturer Part Number: MLB1005F-181T; Package Size: 0402; JLCPCB Basic Part: No; JLCPCB Part Number: C2844536; Supplier 1: LCSC; Category: Ferrite Beads; Supplier Part Number 1: C2844536; Tolerance: ±25%; RoHS: Yes; ComponentLink1Description: Datasheet; ComponentLink1URL: https://wmsc.lcsc.com/wmsc/upload/file/pdf/v2/lcsc/2306021142_MetalLions-MLB1005F-181T_C2844536.pdf; ComponentLink2Description: JLCPCB Part URL; ComponentLink2URL: https://jlcpcb.com/partdetail/C2844536; ComponentLink3Description: LCSC Part URL; ComponentLink3URL: https://lcsc.com/product-detail/Ferrite-Beads_MetalLions-MetalLions-MLB1005F-181T_C2844536.html
pins: 1, 2

## MLB1005F-182T
designator FB?  Impedance @ Frequency: 1.8kΩ@100MHz
Ferrite, 1.8kΩ@100MHz, ±25%, 1.8Ω, 100mA, SMD 0402; Manufacturer: Meled; Manufacturer Part Number: MLB1005F-182T; Package Size: 0402; JLCPCB Basic Part: No; JLCPCB Part Number: C2844548; Supplier 1: LCSC; Category: Ferrite Beads; Supplier Part Number 1: C2844548; Tolerance: ±25%; Rated Current: 100mA; DC Resistance: 1.8Ω; RoHS: Yes; ComponentLink1Description: Datasheet; ComponentLink1URL: https://wmsc.lcsc.com/wmsc/upload/file/pdf/v2/lcsc/2306021142_MetalLions-MLB1005F-182T_C2844548.pdf; ComponentLink2Description: JLCPCB Part URL; ComponentLink2URL: https://jlcpcb.com/partdetail/C2844548; ComponentLink3Description: LCSC Part URL; ComponentLink3URL: https://lcsc.com/product-detail/Ferrite-Beads_MetalLions-MetalLions-MLB1005F-182T_C2844548.html
footprint FB-0402 (0402 (1005M) Ferrite)
pins: 1, 2

## MLB1005F-221T
designator FB?  Impedance @ Frequency: 220Ω@100MHz
Ferrite, 220Ω@100MHz, ±25%, 450mΩ, 150mA, SMD 0402; Manufacturer: Meled; Manufacturer Part Number: MLB1005F-221T; Package Size: 0402; JLCPCB Basic Part: No; JLCPCB Part Number: C2844537; Supplier 1: LCSC; Category: Ferrite Beads; Supplier Part Number 1: C2844537; Tolerance: ±25%; Rated Current: 150mA; DC Resistance: 450mΩ; RoHS: Yes; ComponentLink1Description: Datasheet; ComponentLink1URL: https://wmsc.lcsc.com/wmsc/upload/file/pdf/v2/lcsc/2306021142_MetalLions-MLB1005F-221T_C2844537.pdf; ComponentLink2Description: JLCPCB Part URL; ComponentLink2URL: https://jlcpcb.com/partdetail/C2844537; ComponentLink3Description: LCSC Part URL; ComponentLink3URL: https://lcsc.com/product-detail/Ferrite-Beads_MetalLions-MetalLions-MLB1005F-221T_C2844537.html
footprint FB-0402 (0402 (1005M) Ferrite)
pins: 1, 2

## MLB1005F-241T
designator FB?  Impedance @ Frequency: 240Ω@100MHz
Ferrite, 240Ω@100MHz, ±25%, 500mΩ, 200mA, SMD 0402; Manufacturer: Meled; Manufacturer Part Number: MLB1005F-241T; Package Size: 0402; JLCPCB Basic Part: No; JLCPCB Part Number: C2844538; Supplier 1: LCSC; Category: Ferrite Beads; Supplier Part Number 1: C2844538; Tolerance: ±25%; Rated Current: 200mA; DC Resistance: 500mΩ; RoHS: Yes; ComponentLink1Description: Datasheet; ComponentLink1URL: https://wmsc.lcsc.com/wmsc/upload/file/pdf/v2/lcsc/2306021142_MetalLions-MLB1005F-241T_C2844538.pdf; ComponentLink2Description: JLCPCB Part URL; ComponentLink2URL: https://jlcpcb.com/partdetail/C2844538; ComponentLink3Description: LCSC Part URL; ComponentLink3URL: https://lcsc.com/product-detail/Ferrite-Beads_MetalLions-MetalLions-MLB1005F-241T_C2844538.html
footprint FB-0402 (0402 (1005M) Ferrite)
pins: 1, 2

## MLB1005F-300T
designator FB?  Impedance @ Frequency: 30Ω@100MHz
Ferrite, 30Ω@100MHz, ±25%, 200mΩ, 300mA, SMD 0402; Manufacturer: Meled; Manufacturer Part Number: MLB1005F-300T; Package Size: 0402; JLCPCB Basic Part: No; JLCPCB Part Number: C2844528; Supplier 1: LCSC; Category: Ferrite Beads; Supplier Part Number 1: C2844528; Tolerance: ±25%; Rated Current: 300mA; DC Resistance: 200mΩ; RoHS: Yes; ComponentLink1Description: Datasheet; ComponentLink1URL: https://wmsc.lcsc.com/wmsc/upload/file/pdf/v2/lcsc/2306021141_MetalLions-MLB1005F-300T_C2844528.pdf; ComponentLink2Description: JLCPCB Part URL; ComponentLink2URL: https://jlcpcb.com/partdetail/C2844528; ComponentLink3Description: LCSC Part URL; ComponentLink3URL: https://lcsc.com/product-detail/Ferrite-Beads_MetalLions-MetalLions-MLB1005F-300T_C2844528.html
footprint FB-0402 (0402 (1005M) Ferrite)
pins: 1, 2

## MLB1005F-301T
designator FB?  Impedance @ Frequency: 300Ω@100MHz
Ferrite, 300Ω@100MHz, ±25%, 500mΩ, 100mA, SMD 0402; Manufacturer: Meled; Manufacturer Part Number: MLB1005F-301T; Package Size: 0402; JLCPCB Basic Part: No; JLCPCB Part Number: C2844539; Supplier 1: LCSC; Category: Ferrite Beads; Supplier Part Number 1: C2844539; Tolerance: ±25%; Rated Current: 100mA; DC Resistance: 500mΩ; RoHS: Yes; ComponentLink1Description: Datasheet; ComponentLink1URL: https://wmsc.lcsc.com/wmsc/upload/file/pdf/v2/lcsc/2306021142_MetalLions-MLB1005F-301T_C2844539.pdf; ComponentLink2Description: JLCPCB Part URL; ComponentLink2URL: https://jlcpcb.com/partdetail/C2844539; ComponentLink3Description: LCSC Part URL; ComponentLink3URL: https://lcsc.com/product-detail/Ferrite-Beads_MetalLions-MetalLions-MLB1005F-301T_C2844539.html
footprint FB-0402 (0402 (1005M) Ferrite)
pins: 1, 2

## MLB1005F-331T
designator FB?  Impedance @ Frequency: 330Ω@100MHz
Ferrite, 330Ω@100MHz, ±25%, SMD 0402; Manufacturer: Meled; Manufacturer Part Number: MLB1005F-331T; Package Size: 0402; JLCPCB Basic Part: No; JLCPCB Part Number: C2844540; Supplier 1: LCSC; Category: Ferrite Beads; Supplier Part Number 1: C2844540; Tolerance: ±25%; RoHS: Yes; ComponentLink1Description: Datasheet; ComponentLink1URL: https://wmsc.lcsc.com/wmsc/upload/file/pdf/v2/lcsc/2306021142_MetalLions-MLB1005F-331T_C2844540.pdf; ComponentLink2Description: JLCPCB Part URL; ComponentLink2URL: https://jlcpcb.com/partdetail/C2844540; ComponentLink3Description: LCSC Part URL; ComponentLink3URL: https://lcsc.com/product-detail/Ferrite-Beads_MetalLions-MetalLions-MLB1005F-331T_C2844540.html
pins: 1, 2

## MLB1005F-601T
designator FB?  Impedance @ Frequency: 600Ω@100MHz
Ferrite, 600Ω@100MHz, ±25%, 0.9Ω, 100mA, SMD 0402; Manufacturer: Meled; Manufacturer Part Number: MLB1005F-601T; Package Size: 0402; JLCPCB Basic Part: No; JLCPCB Part Number: C2844543; Supplier 1: LCSC; Category: Ferrite Beads; Supplier Part Number 1: C2844543; Tolerance: ±25%; Rated Current: 100mA; DC Resistance: 0.9Ω; RoHS: Yes; ComponentLink1Description: Datasheet; ComponentLink1URL: https://wmsc.lcsc.com/wmsc/upload/file/pdf/v2/lcsc/2306021142_MetalLions-MLB1005F-601T_C2844543.pdf; ComponentLink2Description: JLCPCB Part URL; ComponentLink2URL: https://jlcpcb.com/partdetail/C2844543; ComponentLink3Description: LCSC Part URL; ComponentLink3URL: https://lcsc.com/product-detail/Ferrite-Beads_Meled-Meled-MLB1005F-601T_C2844543.html
footprint FB-0402 (0402 (1005M) Ferrite)
pins: 1, 2

## MLB1005F-700T
designator FB?  Impedance @ Frequency: 70Ω@100MHz
Ferrite, 70Ω@100MHz, ±25%, 300mΩ, 200mA, SMD 0402; Manufacturer: Meled; Manufacturer Part Number: MLB1005F-700T; Package Size: 0402; JLCPCB Basic Part: No; JLCPCB Part Number: C2844532; Supplier 1: LCSC; Category: Ferrite Beads; Supplier Part Number 1: C2844532; Tolerance: ±25%; Rated Current: 200mA; DC Resistance: 300mΩ; RoHS: Yes; ComponentLink1Description: Datasheet; ComponentLink1URL: https://wmsc.lcsc.com/wmsc/upload/file/pdf/v2/lcsc/2306021141_MetalLions-MLB1005F-700T_C2844532.pdf; ComponentLink2Description: JLCPCB Part URL; ComponentLink2URL: https://jlcpcb.com/partdetail/C2844532; ComponentLink3Description: LCSC Part URL; ComponentLink3URL: https://lcsc.com/product-detail/Ferrite-Beads_MetalLions-MetalLions-MLB1005F-700T_C2844532.html
footprint FB-0402 (0402 (1005M) Ferrite)
pins: 1, 2

## MMZ1005A102ET000
designator FB?  Impedance @ Frequency: 1kΩ@100MHz
Ferrite, 1kΩ@100MHz, ±25%, 1.2Ω, 250mA, SMD 0402; Manufacturer: TDK; Manufacturer Part Number: MMZ1005A102ET000; Package Size: 0402; JLCPCB Basic Part: No; JLCPCB Part Number: C275408; Supplier 1: LCSC; Category: Ferrite Beads; Supplier Part Number 1: C275408; Tolerance: ±25%; Rated Current: 250mA; DC Resistance: 1.2Ω; RoHS: Yes; ComponentLink1Description: Datasheet; ComponentLink1URL: https://wmsc.lcsc.com/wmsc/upload/file/pdf/v2/lcsc/2304140030_TDK-MMZ1005A102ET000_C275408.pdf; ComponentLink2Description: JLCPCB Part URL; ComponentLink2URL: https://jlcpcb.com/partdetail/C275408; ComponentLink3Description: LCSC Part URL; ComponentLink3URL: https://lcsc.com/product-detail/Ferrite-Beads_TDK-TDK-MMZ1005A102ET000_C275408.html
footprint FB-0402 (0402 (1005M) Ferrite)
pins: 1, 2

## MMZ1005A152ET000
designator FB?  Impedance @ Frequency: 1.5kΩ@100MHz
Ferrite, 1.5kΩ@100MHz, ±25%, 1.6Ω, 230mA, SMD 0402; Manufacturer: TDK; Manufacturer Part Number: MMZ1005A152ET000; Package Size: 0402; JLCPCB Basic Part: No; JLCPCB Part Number: C76802; Supplier 1: LCSC; Category: Ferrite Beads; Supplier Part Number 1: C76802; Tolerance: ±25%; Rated Current: 230mA; DC Resistance: 1.6Ω; RoHS: Yes; ComponentLink1Description: Datasheet; ComponentLink1URL: https://wmsc.lcsc.com/wmsc/upload/file/pdf/v2/lcsc/2304140030_TDK-MMZ1005A152ET000_C76802.pdf; ComponentLink2Description: JLCPCB Part URL; ComponentLink2URL: https://jlcpcb.com/partdetail/C76802; ComponentLink3Description: LCSC Part URL; ComponentLink3URL: https://lcsc.com/product-detail/Ferrite-Beads_TDK-TDK-MMZ1005A152ET000_C76802.html
footprint FB-0402 (0402 (1005M) Ferrite)
pins: 1, 2

## MMZ1005A182ET000
designator FB?  Impedance @ Frequency: 1.8kΩ@100MHz
Ferrite, 1.8kΩ@100MHz, ±25%, 2.1Ω, 200mA, SMD 0402; Manufacturer: TDK; Manufacturer Part Number: MMZ1005A182ET000; Package Size: 0402; JLCPCB Basic Part: No; JLCPCB Part Number: C250446; Supplier 1: LCSC; Category: Ferrite Beads; Supplier Part Number 1: C250446; Tolerance: ±25%; Rated Current: 200mA; DC Resistance: 2.1Ω; RoHS: Yes; ComponentLink1Description: Datasheet; ComponentLink1URL: https://wmsc.lcsc.com/wmsc/upload/file/pdf/v2/lcsc/1810262207_TDK-MMZ1005A182ET000_C250446.pdf; ComponentLink2Description: JLCPCB Part URL; ComponentLink2URL: https://jlcpcb.com/partdetail/C250446; ComponentLink3Description: LCSC Part URL; ComponentLink3URL: https://lcsc.com/product-detail/Ferrite-Beads_TDK-TDK-MMZ1005A182ET000_C250446.html
footprint FB-0402 (0402 (1005M) Ferrite)
pins: 1, 2

## MMZ1005A222ET000
designator FB?  Impedance @ Frequency: 2.2kΩ@100MHz
Ferrite, 2.2kΩ@100MHz, ±25%, 2.2Ω, 150mA, SMD 0402; Manufacturer: TDK; Manufacturer Part Number: MMZ1005A222ET000; Package Size: 0402; JLCPCB Basic Part: No; JLCPCB Part Number: C275411; Supplier 1: LCSC; Category: Ferrite Beads; Supplier Part Number 1: C275411; Tolerance: ±25%; Rated Current: 150mA; DC Resistance: 2.2Ω; RoHS: Yes; ComponentLink1Description: Datasheet; ComponentLink1URL: https://wmsc.lcsc.com/wmsc/upload/file/pdf/v2/lcsc/2304140030_TDK-MMZ1005A222ET000_C275411.pdf; ComponentLink2Description: JLCPCB Part URL; ComponentLink2URL: https://jlcpcb.com/partdetail/C275411; ComponentLink3Description: LCSC Part URL; ComponentLink3URL: https://lcsc.com/product-detail/Ferrite-Beads_TDK-TDK-MMZ1005A222ET000_C275411.html
footprint FB-0402 (0402 (1005M) Ferrite)
pins: 1, 2

## MMZ1005A222ETD25
designator FB?  Impedance @ Frequency: 2.2kΩ@100MHz
Ferrite, 2.2kΩ@100MHz, ±25%, 2.2Ω, 150mA, SMD 0402; Manufacturer: TDK; Manufacturer Part Number: MMZ1005A222ETD25; Package Size: 0402; JLCPCB Basic Part: No; JLCPCB Part Number: C2661556; Supplier 1: LCSC; Category: Ferrite Beads; Supplier Part Number 1: C2661556; Tolerance: ±25%; Rated Current: 150mA; DC Resistance: 2.2Ω; RoHS: Yes; ComponentLink1Description: Datasheet; ComponentLink1URL: https://wmsc.lcsc.com/wmsc/upload/file/pdf/v2/lcsc/2304140030_TDK-MMZ1005A222ETD25_C2661556.pdf; ComponentLink2Description: JLCPCB Part URL; ComponentLink2URL: https://jlcpcb.com/partdetail/C2661556; ComponentLink3Description: LCSC Part URL; ComponentLink3URL: https://lcsc.com/product-detail/Ferrite-Beads_TDK-TDK-MMZ1005A222ETD25_C2661556.html
footprint FB-0402 (0402 (1005M) Ferrite)
pins: 1, 2

## MMZ1005A601ET000
designator FB?  Impedance @ Frequency: 600Ω@100MHz
Ferrite, 600Ω@100MHz, ±25%, 800mΩ, 300mA, SMD 0402; Manufacturer: TDK; Manufacturer Part Number: MMZ1005A601ET000; Package Size: 0402; JLCPCB Basic Part: No; JLCPCB Part Number: C275412; Supplier 1: LCSC; Category: Ferrite Beads; Supplier Part Number 1: C275412; Tolerance: ±25%; Rated Current: 300mA; DC Resistance: 800mΩ; RoHS: Yes; ComponentLink1Description: Datasheet; ComponentLink1URL: https://wmsc.lcsc.com/wmsc/upload/file/pdf/v2/lcsc/2005181102_TDK-MMZ1005A601ET000_C275412.pdf; ComponentLink2Description: JLCPCB Part URL; ComponentLink2URL: https://jlcpcb.com/partdetail/C275412; ComponentLink3Description: LCSC Part URL; ComponentLink3URL: https://lcsc.com/product-detail/Ferrite-Beads_TDK-TDK-MMZ1005A601ET000_C275412.html
footprint FB-0402 (0402 (1005M) Ferrite)
pins: 1, 2

## MMZ1005AFZ151VT000
designator FB?  Impedance @ Frequency: 150Ω@100MHz
Ferrite, 150Ω@100MHz, ±25%, 1.3Ω, 200mA, SMD 0402; Manufacturer: TDK; Manufacturer Part Number: MMZ1005AFZ151VT000; Package Size: 0402; JLCPCB Basic Part: No; JLCPCB Part Number: C307756; Supplier 1: LCSC; Category: Ferrite Beads; Supplier Part Number 1: C307756; Tolerance: ±25%; Rated Current: 200mA; DC Resistance: 1.3Ω; RoHS: Yes; ComponentLink1Description: Datasheet; ComponentLink1URL: https://wmsc.lcsc.com/wmsc/upload/file/pdf/v2/lcsc/1811021517_TDK-MMZ1005AFZ151VT000_C307756.pdf; ComponentLink2Description: JLCPCB Part URL; ComponentLink2URL: https://jlcpcb.com/partdetail/C307756; ComponentLink3Description: LCSC Part URL; ComponentLink3URL: https://lcsc.com/product-detail/Ferrite-Beads_TDK-TDK-MMZ1005AFZ151VT000_C307756.html
footprint FB-0402 (0402 (1005M) Ferrite)
pins: 1, 2

## MMZ1005B121CT000
designator FB?  Impedance @ Frequency: 120Ω@100MHz
Ferrite, 120Ω@100MHz, ±25%, 250mΩ, 400mA, SMD 0402; Manufacturer: TDK; Manufacturer Part Number: MMZ1005B121CT000; Package Size: 0402; JLCPCB Basic Part: No; JLCPCB Part Number: C307757; Supplier 1: LCSC; Category: Ferrite Beads; Supplier Part Number 1: C307757; Tolerance: ±25%; Rated Current: 400mA; DC Resistance: 250mΩ; RoHS: Yes; ComponentLink1Description: Datasheet; ComponentLink1URL: https://wmsc.lcsc.com/wmsc/upload/file/pdf/v2/lcsc/1811030912_TDK-MMZ1005B121CT000_C307757.pdf; ComponentLink2Description: JLCPCB Part URL; ComponentLink2URL: https://jlcpcb.com/partdetail/C307757; ComponentLink3Description: LCSC Part URL; ComponentLink3URL: https://lcsc.com/product-detail/Ferrite-Beads_TDK-TDK-MMZ1005B121CT000_C307757.html
footprint FB-0402 (0402 (1005M) Ferrite)
pins: 1, 2

## MMZ1005B601CT000
designator FB?  Impedance @ Frequency: 600Ω@100MHz
Ferrite, 600Ω@100MHz, ±25%, 850mΩ, 200mA, SMD 0402; Manufacturer: TDK; Manufacturer Part Number: MMZ1005B601CT000; Package Size: 0402; JLCPCB Basic Part: No; JLCPCB Part Number: C275413; Supplier 1: LCSC; Category: Ferrite Beads; Supplier Part Number 1: C275413; Tolerance: ±25%; Rated Current: 200mA; DC Resistance: 850mΩ; RoHS: Yes; ComponentLink1Description: Datasheet; ComponentLink1URL: https://wmsc.lcsc.com/wmsc/upload/file/pdf/v2/lcsc/2304140030_TDK-MMZ1005B601CT000_C275413.pdf; ComponentLink2Description: JLCPCB Part URL; ComponentLink2URL: https://jlcpcb.com/partdetail/C275413; ComponentLink3Description: LCSC Part URL; ComponentLink3URL: https://lcsc.com/product-detail/Ferrite-Beads_TDK-TDK-MMZ1005B601CT000_C275413.html
footprint FB-0402 (0402 (1005M) Ferrite)
pins: 1, 2

## MMZ1005B601CTD25
designator FB?  Impedance @ Frequency: 600Ω@100MHz
Ferrite, 600Ω@100MHz, ±25%, 850mΩ, 200mA, SMD 0402; Manufacturer: TDK; Manufacturer Part Number: MMZ1005B601CTD25; Package Size: 0402; JLCPCB Basic Part: No; JLCPCB Part Number: C404691; Supplier 1: LCSC; Category: Ferrite Beads; Supplier Part Number 1: C404691; Tolerance: ±25%; Rated Current: 200mA; DC Resistance: 850mΩ; RoHS: Yes; ComponentLink1Description: Datasheet; ComponentLink1URL: https://wmsc.lcsc.com/wmsc/upload/file/pdf/v2/lcsc/2304140030_TDK-MMZ1005B601CTD25_C404691.pdf; ComponentLink2Description: JLCPCB Part URL; ComponentLink2URL: https://jlcpcb.com/partdetail/C404691; ComponentLink3Description: LCSC Part URL; ComponentLink3URL: https://lcsc.com/product-detail/Ferrite-Beads_TDK-TDK-MMZ1005B601CTD25_C404691.html
footprint FB-0402 (0402 (1005M) Ferrite)
pins: 1, 2

## MMZ1005D100CT000
designator FB?  Impedance @ Frequency: 10Ω@100MHz
Ferrite, 10Ω@100MHz, ±25%, 100mΩ, 500mA, SMD 0402; Manufacturer: TDK; Manufacturer Part Number: MMZ1005D100CT000; Package Size: 0402; JLCPCB Basic Part: No; JLCPCB Part Number: C531292; Supplier 1: LCSC; Category: Ferrite Beads; Supplier Part Number 1: C531292; Tolerance: ±25%; Rated Current: 500mA; DC Resistance: 100mΩ; RoHS: Yes; ComponentLink1Description: Datasheet; ComponentLink1URL: https://wmsc.lcsc.com/wmsc/upload/file/pdf/v2/lcsc/2006191008_TDK-MMZ1005D100CT000_C531292.pdf; ComponentLink2Description: JLCPCB Part URL; ComponentLink2URL: https://jlcpcb.com/partdetail/C531292; ComponentLink3Description: LCSC Part URL; ComponentLink3URL: https://lcsc.com/product-detail/Ferrite-Beads_TDK-TDK-MMZ1005D100CT000_C531292.html
footprint FB-0402 (0402 (1005M) Ferrite)
pins: 1, 2

## MMZ1005D100CTD25
designator FB?  Impedance @ Frequency: 10Ω@100MHz
Ferrite, 10Ω@100MHz, ±25%, 100mΩ, 500mA, SMD 0402; Manufacturer: TDK; Manufacturer Part Number: MMZ1005D100CTD25; Package Size: 0402; JLCPCB Basic Part: No; JLCPCB Part Number: C404705; Supplier 1: LCSC; Category: Ferrite Beads; Supplier Part Number 1: C404705; Tolerance: ±25%; Rated Current: 500mA; DC Resistance: 100mΩ; RoHS: Yes; ComponentLink1Description: Datasheet; ComponentLink1URL: https://wmsc.lcsc.com/wmsc/upload/file/pdf/v2/lcsc/2304140030_TDK-MMZ1005D100CTD25_C404705.pdf; ComponentLink2Description: JLCPCB Part URL; ComponentLink2URL: https://jlcpcb.com/partdetail/C404705; ComponentLink3Description: LCSC Part URL; ComponentLink3URL: https://lcsc.com/product-detail/Ferrite-Beads_TDK-TDK-MMZ1005D100CTD25_C404705.html
footprint FB-0402 (0402 (1005M) Ferrite)
pins: 1, 2

## MMZ1005D220CTD25
designator FB?  Impedance @ Frequency: 22Ω@100MHz
Ferrite, 22Ω@100MHz, ±25%, 170mΩ, 400mA, SMD 0402; Manufacturer: TDK; Manufacturer Part Number: MMZ1005D220CTD25; Package Size: 0402; JLCPCB Basic Part: No; JLCPCB Part Number: C404706; Supplier 1: LCSC; Category: Ferrite Beads; Supplier Part Number 1: C404706; Tolerance: ±25%; Rated Current: 400mA; DC Resistance: 170mΩ; RoHS: Yes; ComponentLink1Description: Datasheet; ComponentLink1URL: https://wmsc.lcsc.com/wmsc/upload/file/pdf/v2/lcsc/2304140030_TDK-MMZ1005D220CTD25_C404706.pdf; ComponentLink2Description: JLCPCB Part URL; ComponentLink2URL: https://jlcpcb.com/partdetail/C404706; ComponentLink3Description: LCSC Part URL; ComponentLink3URL: https://lcsc.com/product-detail/Ferrite-Beads_TDK-TDK-MMZ1005D220CTD25_C404706.html
footprint FB-0402 (0402 (1005M) Ferrite)
pins: 1, 2

## MMZ1005D221ET000
designator FB?  Impedance @ Frequency: 220Ω@100MHz
Ferrite, 220Ω@100MHz, ±25%, 1Ω, 250mA, SMD 0402; Manufacturer: TDK; Manufacturer Part Number: MMZ1005D221ET000; Package Size: 0402; JLCPCB Basic Part: No; JLCPCB Part Number: C275415; Supplier 1: LCSC; Category: Ferrite Beads; Supplier Part Number 1: C275415; Tolerance: ±25%; Rated Current: 250mA; DC Resistance: 1Ω; RoHS: Yes; ComponentLink1Description: Datasheet; ComponentLink1URL: https://wmsc.lcsc.com/wmsc/upload/file/pdf/v2/lcsc/2304140030_TDK-MMZ1005D221ET000_C275415.pdf; ComponentLink2Description: JLCPCB Part URL; ComponentLink2URL: https://jlcpcb.com/partdetail/C275415; ComponentLink3Description: LCSC Part URL; ComponentLink3URL: https://lcsc.com/product-detail/Ferrite-Beads_TDK-TDK-MMZ1005D221ET000_C275415.html
footprint FB-0402 (0402 (1005M) Ferrite)
pins: 1, 2

## MMZ1005D241CT000
designator FB?  Impedance @ Frequency: 240Ω@100MHz
Ferrite, 240Ω@100MHz, ±25%, 900mΩ, 200mA, SMD 0402; Manufacturer: TDK; Manufacturer Part Number: MMZ1005D241CT000; Package Size: 0402; JLCPCB Basic Part: No; JLCPCB Part Number: C524456; Supplier 1: LCSC; Category: Ferrite Beads; Supplier Part Number 1: C524456; Tolerance: ±25%; Rated Current: 200mA; DC Resistance: 900mΩ; RoHS: Yes; ComponentLink1Description: Datasheet; ComponentLink1URL: https://wmsc.lcsc.com/wmsc/upload/file/pdf/v2/lcsc/2304140030_TDK-MMZ1005D241CT000_C524456.pdf; ComponentLink2Description: JLCPCB Part URL; ComponentLink2URL: https://jlcpcb.com/partdetail/C524456; ComponentLink3Description: LCSC Part URL; ComponentLink3URL: https://lcsc.com/product-detail/Ferrite-Beads_TDK-TDK-MMZ1005D241CT000_C524456.html
footprint FB-0402 (0402 (1005M) Ferrite)
pins: 1, 2

## MMZ1005D241CTD25
designator FB?  Impedance @ Frequency: 240Ω@100MHz
Ferrite, 240Ω@100MHz, ±25%, 900mΩ, 200mA, SMD 0402; Manufacturer: TDK; Manufacturer Part Number: MMZ1005D241CTD25; Package Size: 0402; JLCPCB Basic Part: No; JLCPCB Part Number: C404710; Supplier 1: LCSC; Category: Ferrite Beads; Supplier Part Number 1: C404710; Tolerance: ±25%; Rated Current: 200mA; DC Resistance: 900mΩ; RoHS: Yes; ComponentLink1Description: Datasheet; ComponentLink1URL: https://wmsc.lcsc.com/wmsc/upload/file/pdf/v2/lcsc/2304140030_TDK-MMZ1005D241CTD25_C404710.pdf; ComponentLink2Description: JLCPCB Part URL; ComponentLink2URL: https://jlcpcb.com/partdetail/C404710; ComponentLink3Description: LCSC Part URL; ComponentLink3URL: https://lcsc.com/product-detail/Ferrite-Beads_TDK-TDK-MMZ1005D241CTD25_C404710.html
footprint FB-0402 (0402 (1005M) Ferrite)
pins: 1, 2

## MMZ1005D330CT000
designator FB?  Impedance @ Frequency: 33Ω@100MHz
Ferrite, 33Ω@100MHz, ±25%, 0.24Ω, 0.4A, SMD 0402; Manufacturer: TDK; Manufacturer Part Number: MMZ1005D330CT000; Package Size: 0402; JLCPCB Basic Part: No; JLCPCB Part Number: C2833717; Supplier 1: LCSC; Category: Ferrite Beads; Supplier Part Number 1: C2833717; Tolerance: ±25%; Rated Current: 0.4A; DC Resistance: 0.24Ω; RoHS: Yes; ComponentLink1Description: Datasheet; ComponentLink1URL: https://wmsc.lcsc.com/wmsc/upload/file/pdf/v2/lcsc/2111030930_TDK-MMZ1005D330CT000_C2833717.pdf; ComponentLink2Description: JLCPCB Part URL; ComponentLink2URL: https://jlcpcb.com/partdetail/C2833717; ComponentLink3Description: LCSC Part URL; ComponentLink3URL: https://lcsc.com/product-detail/Ferrite-Beads_TDK-TDK-MMZ1005D330CT000_C2833717.html
footprint FB-0402 (0402 (1005M) Ferrite)
pins: 1, 2